# Altium integrated library LSM6DSMTR.IntLib: 1 symbol
Pins are listed as number, name and electrical type; pins without a type are passive.

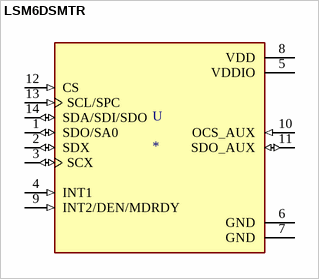
[diagram p0: symbol LSM6DSMTR]

## LSM6DSMTR
designator U
Accelerometer, Gyroscope, Temperature, 6 Axis Sensor IÂ²C, SPI Output; MF: STMicroelectronics; MP: LSM6DSMTR; Value: *; Availability: Unavailable; SnapEDA_Link: https://www.snapeda.com/parts/LSM6DSMTR/STMicroelectronics/view-part/581716/?ref=snap; Package: VFLGA-14 STMicroelectronics; Price: None
footprint PQFN50P300X250X86-14N
pins: 1 SDO/SA0 (io), 2 SDX (io), 3 SCX (io), 4 INT1 (in), 5 VDDIO (power), 6 GND (power), 7 GND (power), 8 VDD (power), 9 INT2/DEN/MDRDY (in), 10 OCS_AUX (in), 11 SDO_AUX (io), 12 CS (in), 13 SCL/SPC (in), 14 SDA/SDI/SDO (io)